# EAGLE library part NL8MD (library con_neutrik_ag__Speakon® Lockable Loudspeaker Connector)
The state-of-the-art chassis connector for loudspeaker / amplifier applications. They feature a unique locking system, robust plastic housing and high current silver plated contacts.
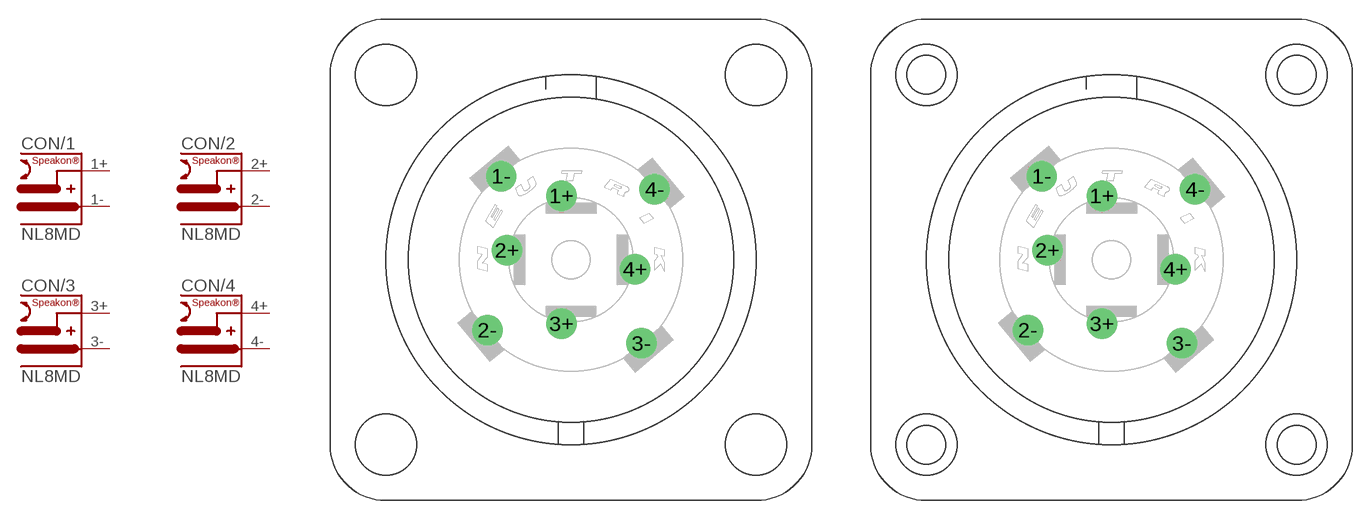
[diagram p0: symbol with the pads of NL8MD-V; footprints NL8MD-V, NL8MD-V-1]

Designator prefix CON; gates /1=NL /3=NL /2=NL /4=NL

## NL8MD-V  [NL8MD-V]
1+  /1:+  pas
1-  /1:-  pas
2+  /2:+  pas
2-  /2:-  pas
3+  /3:+  pas
3-  /3:-  pas
4+  /4:+  pas
4-  /4:-  pas

## NL8MD-V-1  [NL8MD-V-1]
Pads as for NL8MD-V

## NL8MD-V-BAG  [NL8MD-V-BAG]
Pads as for NL8MD-V

## Footprint NL8MD-V (pad centres in mm)
8 pole chassis connector, nickel metal square G-size flange, countersunk thru holes, vertical PCB mount
drill 1.6 round: 1+ -0.75,5.05; 1- -5.5,6.6; 2+ -5.05,0.75; 2- -6.6,-5.55; 3+ -0.75,-5.05; 3- 5.55,-6.6; 4+ 5.05,-0.75; 4- 6.6,5.55

## Footprint NL8MD-V-1 (pad centres in mm)
8 pole chassis connector, nickel metal square G-size flange, self tapping screw holes (A-screw), vertical PCB mount
drill 1.6 round: 1+ -0.75,5.05; 1- -5.5,6.6; 2+ -5.05,0.75; 2- -6.6,-5.55; 3+ -0.75,-5.05; 3- 5.55,-6.6; 4+ 5.05,-0.75; 4- 6.6,5.55

## Footprint NL8MD-V-BAG (pad centres in mm)
8 pole chassis connector, black chrome square G-size flange, countersunk thru holes, vertical PCB mount
drill 1.6 round: 1+ -0.75,5.05; 1- -5.5,6.6; 2+ -5.05,0.75; 2- -6.6,-5.55; 3+ -0.75,-5.05; 3- 5.55,-6.6; 4+ 5.05,-0.75; 4- 6.6,5.55